# Altium schematic symbol library 3_Pin_ScrewTerm.SchLib: 1 symbol
Pins are listed as number, name and electrical type; pins without a type are passive.

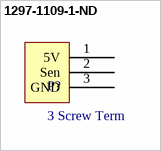
[diagram p0: symbol 1297-1109-1-ND]

## 1297-1109-1-ND
designator P?, comment 3 Screw Term
1297-1109-1-ND
footprint PCBComponent_1
pins: 1 5V, 2 Sen, 3 GND